# EAGLE library part 74HC4050D (library Synapseware)
HEX HIGH-LOW LEVEL Buffer & Line Driver
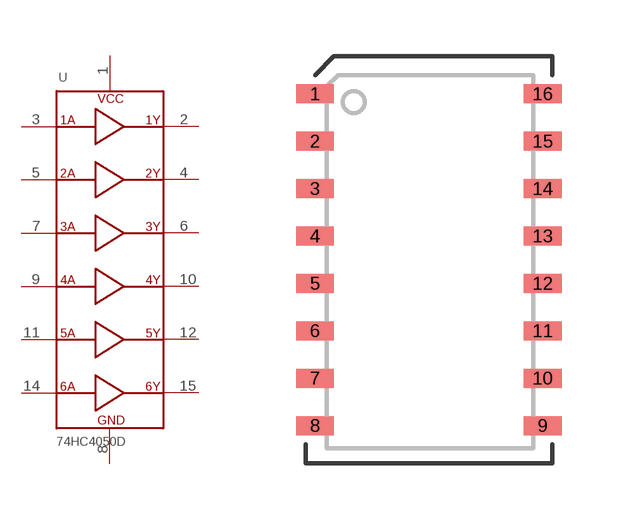
[diagram p8: symbol with the pads of SOT-109-16; footprint SOT-109-16]

Designator prefix -

## 74HC4050D  [SOT-109-16]
1  VCC
2  1Y
3  1A
4  2Y
5  2A
6  3Y
7  3A
8  GND
9  4A
10  4Y
11  5A
12  5Y
14  6A
15  6Y

## Footprint SOT-109-16 (pad centres in mm)
SO-16 (SOT-109-16)
smd 1.016 x 0.508: 1 -3.048,4.572; 2 -3.048,3.302; 3 -3.048,2.032; 4 -3.048,0.762; 5 -3.048,-0.508; 6 -3.048,-1.778; 7 -3.048,-3.048; 8 -3.048,-4.318; 9 3.048,-4.318; 10 3.048,-3.048; 11 3.048,-1.778; 12 3.048,-0.508; 13 3.048,0.762; 14 3.048,2.032; 15 3.048,3.302; 16 3.048,4.572